# Altium schematic symbol library diode.SchLib: 1 symbol
Pins are listed as number, name and electrical type; pins without a type are passive.

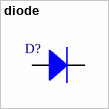
[diagram p0: symbol diode]

## diode
designator D?
pins: 1, 2